# Altium schematic symbol library TPS54560DDAR.SchLib: 2 symbols
Pins are listed as number, name and electrical type; pins without a type are passive.

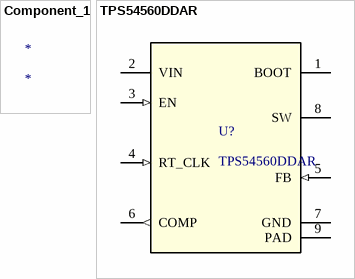
[diagram p0: symbols Component_1 to TPS54560DDAR]

## Component_1
designator *

## TPS54560DDAR
designator U?
No Description Available; Mfr_Name: Texas Instruments; Type: DEV; RefDes: RefDes; Copyright: Copyright (C) 2023 Ultra Librarian. All rights reserved.; Manufacturer_Part_Number: TPS54560DDAR
footprint DDA0008E_N
pins: 1 BOOT (power), 2 VIN (power), 3 EN (in), 4 RT_CLK (in), 5 FB (in), 6 COMP (out), 7 GND (power), 8 SW (power), 9 PAD (power)